# Altium schematic symbol library Mechanical.SchLib: 1 symbol
Pins are listed as number, name and electrical type; pins without a type are passive.

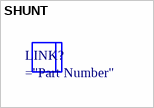
[diagram p0: symbol SHUNT]

## SHUNT
designator LINK?